# Altium schematic symbol library WE-LQS.SchLib: 214 symbols (part 2 of 4)
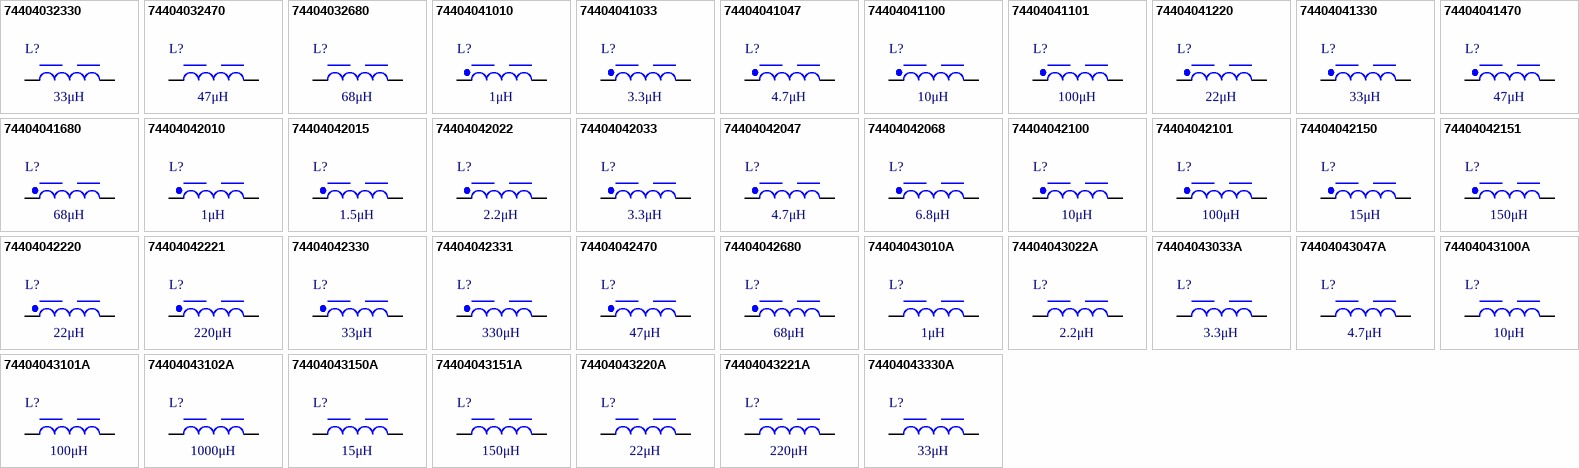
[diagram p6: symbols 74404032330 to 74404043330A]

## 74404042150
designator L?, comment 15μH
WE-LQS SMT Power Inductor, size 4018, 15μH, 0.21Ω; Manufacturer Part Number: 74404042150; Manufacturer: Wurth Elektronik; Case/Size Code: 4018; Rated Current: 0.85A; Saturation Current: 1.4A; Self Resonant Frequency: 25MHz; Category: Power Inductors; Match Code: WE-LQS; ComponentLink1Description: Website Link; ComponentLink1URL: https://www.we-online.com/redexpert/article/74404042150?ad; ComponentLink2Description: Datasheet Link; ComponentLink2URL: https://www.we-online.com/redexpert/spec/74404042150?ad; Mount: Surface Mount; Min Operating Temperature: -40°C; Max Operating Temperature: 125°C; Packaging: Tape and Reel; Length: 4mm; Width: 4mm; Height: 1.8mm; DC Resistance: 0.21Ω; Inductance: 15μH
footprint WE-LQS_4018
simulation model 4018_74404042150_15u
pins: 1, 2

## 74404042151
designator L?, comment 150μH
WE-LQS SMT Power Inductor, size 4018, 150μH, 2.853Ω; Manufacturer Part Number: 74404042151; Manufacturer: Wurth Elektronik; Case/Size Code: 4018; Rated Current: 0.3A; Saturation Current: 0.45A; Self Resonant Frequency: 7.5MHz; Category: Power Inductors; Match Code: WE-LQS; ComponentLink1Description: Website Link; ComponentLink1URL: https://www.we-online.com/redexpert/article/74404042151?ad; ComponentLink2Description: Datasheet Link; ComponentLink2URL: https://www.we-online.com/redexpert/spec/74404042151?ad; Mount: Surface Mount; Min Operating Temperature: -40°C; Max Operating Temperature: 125°C; Packaging: Tape and Reel; Length: 4mm; Width: 4mm; Height: 1.8mm; DC Resistance: 2.853Ω; Inductance: 150μH
footprint WE-LQS_4018
simulation model 4018_74404042151_150u
pins: 1, 2

## 74404042220
designator L?, comment 22μH
WE-LQS SMT Power Inductor, size 4018, 22μH, 0.29Ω; Manufacturer Part Number: 74404042220; Manufacturer: Wurth Elektronik; Case/Size Code: 4018; Rated Current: 0.7A; Saturation Current: 1.1A; Self Resonant Frequency: 23MHz; Category: Power Inductors; Match Code: WE-LQS; ComponentLink1Description: Website Link; ComponentLink1URL: https://www.we-online.com/redexpert/article/74404042220?ad; ComponentLink2Description: Datasheet Link; ComponentLink2URL: https://www.we-online.com/redexpert/spec/74404042220?ad; Mount: Surface Mount; Min Operating Temperature: -40°C; Max Operating Temperature: 125°C; Packaging: Tape and Reel; Length: 4mm; Width: 4mm; Height: 1.8mm; DC Resistance: 0.29Ω; Inductance: 22μH
footprint WE-LQS_4018
simulation model 4018_74404042220_22u
pins: 1, 2

## 74404042221
designator L?, comment 220μH
WE-LQS SMT Power Inductor, size 4018, 220μH, 3.45Ω; Manufacturer Part Number: 74404042221; Manufacturer: Wurth Elektronik; Case/Size Code: 4018; Rated Current: 0.25A; Saturation Current: 0.39A; Self Resonant Frequency: 5.3MHz; Category: Power Inductors; Match Code: WE-LQS; ComponentLink1Description: Website Link; ComponentLink1URL: https://www.we-online.com/redexpert/article/74404042221?ad; ComponentLink2Description: Datasheet Link; ComponentLink2URL: https://www.we-online.com/redexpert/spec/74404042221?ad; Mount: Surface Mount; Min Operating Temperature: -40°C; Max Operating Temperature: 125°C; Packaging: Tape and Reel; Length: 4mm; Width: 4mm; Height: 1.8mm; DC Resistance: 3.45Ω; Inductance: 220μH
footprint WE-LQS_4018
simulation model 4018_74404042221_220u
pins: 1, 2

## 74404042330
designator L?, comment 33μH
WE-LQS SMT Power Inductor, size 4018, 33μH, 0.46Ω; Manufacturer Part Number: 74404042330; Manufacturer: Wurth Elektronik; Case/Size Code: 4018; Rated Current: 0.65A; Saturation Current: 0.9A; Self Resonant Frequency: 16MHz; Category: Power Inductors; Match Code: WE-LQS; ComponentLink1Description: Website Link; ComponentLink1URL: https://www.we-online.com/redexpert/article/74404042330?ad; ComponentLink2Description: Datasheet Link; ComponentLink2URL: https://www.we-online.com/redexpert/spec/74404042330?ad; Mount: Surface Mount; Min Operating Temperature: -40°C; Max Operating Temperature: 125°C; Packaging: Tape and Reel; Length: 4mm; Width: 4mm; Height: 1.8mm; DC Resistance: 0.46Ω; Inductance: 33μH
footprint WE-LQS_4018
simulation model 4018_74404042330_33u
pins: 1, 2

## 74404042331
designator L?, comment 330μH
WE-LQS SMT Power Inductor, size 4018, 330μH, 5.3Ω; Manufacturer Part Number: 74404042331; Manufacturer: Wurth Elektronik; Case/Size Code: 4018; Rated Current: 0.2A; Saturation Current: 0.3A; Self Resonant Frequency: 4.2MHz; Category: Power Inductors; Match Code: WE-LQS; ComponentLink1Description: Website Link; ComponentLink1URL: https://www.we-online.com/redexpert/article/74404042331?ad; ComponentLink2Description: Datasheet Link; ComponentLink2URL: https://www.we-online.com/redexpert/spec/74404042331?ad; Mount: Surface Mount; Min Operating Temperature: -40°C; Max Operating Temperature: 125°C; Packaging: Tape and Reel; Length: 4mm; Width: 4mm; Height: 1.8mm; DC Resistance: 5.3Ω; Inductance: 330μH
footprint WE-LQS_4018
simulation model 4018_74404042331_330u
pins: 1, 2

## 74404042470
designator L?, comment 47μH
WE-LQS SMT Power Inductor, size 4018, 47μH, 0.62Ω; Manufacturer Part Number: 74404042470; Manufacturer: Wurth Elektronik; Case/Size Code: 4018; Rated Current: 0.6A; Saturation Current: 0.7A; Self Resonant Frequency: 11MHz; Category: Power Inductors; Match Code: WE-LQS; ComponentLink1Description: Website Link; ComponentLink1URL: https://www.we-online.com/redexpert/article/74404042470?ad; ComponentLink2Description: Datasheet Link; ComponentLink2URL: https://www.we-online.com/redexpert/spec/74404042470?ad; Mount: Surface Mount; Min Operating Temperature: -40°C; Max Operating Temperature: 125°C; Packaging: Tape and Reel; Length: 4mm; Width: 4mm; Height: 1.8mm; DC Resistance: 0.62Ω; Inductance: 47μH
footprint WE-LQS_4018
simulation model 4018_74404042470_47u
pins: 1, 2

## 74404042680
designator L?, comment 68μH
WE-LQS SMT Power Inductor, size 4018, 68μH, 0.84Ω; Manufacturer Part Number: 74404042680; Manufacturer: Wurth Elektronik; Case/Size Code: 4018; Rated Current: 0.54A; Saturation Current: 0.63A; Self Resonant Frequency: 9MHz; Category: Power Inductors; Match Code: WE-LQS; ComponentLink1Description: Website Link; ComponentLink1URL: https://www.we-online.com/redexpert/article/74404042680?ad; ComponentLink2Description: Datasheet Link; ComponentLink2URL: https://www.we-online.com/redexpert/spec/74404042680?ad; Mount: Surface Mount; Min Operating Temperature: -40°C; Max Operating Temperature: 125°C; Packaging: Tape and Reel; Length: 4mm; Width: 4mm; Height: 1.8mm; DC Resistance: 0.84Ω; Inductance: 68μH
footprint WE-LQS_4018
simulation model 4018_74404042680_68u
pins: 1, 2

## 74404043010A
designator L?, comment 1μH
WE-LQS SMT Power Inductor, size 4025, 1μH, 0.014Ω; Manufacturer Part Number: 74404043010A; Manufacturer: Wurth Elektronik; Case/Size Code: 4025; Rated Current: 4.9A; Saturation Current: 3.22A; Self Resonant Frequency: 167MHz; Category: Power Inductors; Match Code: WE-LQS; ComponentLink1Description: Website Link; ComponentLink1URL: https://www.we-online.com/redexpert/article/74404043010A?ad; ComponentLink2Description: Datasheet Link; ComponentLink2URL: https://www.we-online.com/redexpert/spec/74404043010A?ad; Mount: Surface Mount; Min Operating Temperature: -40°C; Max Operating Temperature: 125°C; Packaging: Tape and Reel; Length: 4mm; Width: 4mm; Height: 2.5mm; DC Resistance: 0.014Ω; Inductance: 1μH
footprint WE-LQS_4025
simulation model 4025_74404043010A_1u
pins: 1, 2

## 74404043022A
designator L?, comment 2.2μH
WE-LQS SMT Power Inductor, size 4025, 2.2μH, 0.023Ω; Manufacturer Part Number: 74404043022A; Manufacturer: Wurth Elektronik; Case/Size Code: 4025; Rated Current: 3.83A; Saturation Current: 2.28A; Self Resonant Frequency: 104MHz; Category: Power Inductors; Match Code: WE-LQS; ComponentLink1Description: Website Link; ComponentLink1URL: https://www.we-online.com/redexpert/article/74404043022A?ad; ComponentLink2Description: Datasheet Link; ComponentLink2URL: https://www.we-online.com/redexpert/spec/74404043022A?ad; Mount: Surface Mount; Min Operating Temperature: -40°C; Max Operating Temperature: 125°C; Packaging: Tape and Reel; Length: 4mm; Width: 4mm; Height: 2.5mm; DC Resistance: 0.023Ω; Inductance: 2.2μH
footprint WE-LQS_4025
simulation model 4025_74404043022A_2.2u
pins: 1, 2

## 74404043033A
designator L?, comment 3.3μH
WE-LQS SMT Power Inductor, size 4025, 3.3μH, 0.033Ω; Manufacturer Part Number: 74404043033A; Manufacturer: Wurth Elektronik; Case/Size Code: 4025; Rated Current: 3.23A; Saturation Current: 1.75A; Self Resonant Frequency: 75MHz; Category: Power Inductors; Match Code: WE-LQS; ComponentLink1Description: Website Link; ComponentLink1URL: https://www.we-online.com/redexpert/article/74404043033A?ad; ComponentLink2Description: Datasheet Link; ComponentLink2URL: https://www.we-online.com/redexpert/spec/74404043033A?ad; Mount: Surface Mount; Min Operating Temperature: -40°C; Max Operating Temperature: 125°C; Packaging: Tape and Reel; Length: 4mm; Width: 4mm; Height: 2.5mm; DC Resistance: 0.033Ω; Inductance: 3.3μH
footprint WE-LQS_4025
simulation model 4025_74404043033A_3.3u
pins: 1, 2

## 74404043047A
designator L?, comment 4.7μH
WE-LQS SMT Power Inductor, size 4025, 4.7μH, 0.046Ω; Manufacturer Part Number: 74404043047A; Manufacturer: Wurth Elektronik; Case/Size Code: 4025; Rated Current: 2.3A; Saturation Current: 1.43A; Self Resonant Frequency: 61MHz; Category: Power Inductors; Match Code: WE-LQS; ComponentLink1Description: Website Link; ComponentLink1URL: https://www.we-online.com/redexpert/article/74404043047A?ad; ComponentLink2Description: Datasheet Link; ComponentLink2URL: https://www.we-online.com/redexpert/spec/74404043047A?ad; Mount: Surface Mount; Min Operating Temperature: -40°C; Max Operating Temperature: 125°C; Packaging: Tape and Reel; Length: 4mm; Width: 4mm; Height: 2.5mm; DC Resistance: 0.046Ω; Inductance: 4.7μH
footprint WE-LQS_4025
simulation model 4025_74404043047A_4.7u
pins: 1, 2

## 74404043100A
designator L?, comment 10μH
WE-LQS SMT Power Inductor, size 4025, 10μH, 0.089Ω; Manufacturer Part Number: 74404043100A; Manufacturer: Wurth Elektronik; Case/Size Code: 4025; Rated Current: 1.76A; Saturation Current: 1.04A; Self Resonant Frequency: 42MHz; Category: Power Inductors; Match Code: WE-LQS; ComponentLink1Description: Website Link; ComponentLink1URL: https://www.we-online.com/redexpert/article/74404043100A?ad; ComponentLink2Description: Datasheet Link; ComponentLink2URL: https://www.we-online.com/redexpert/spec/74404043100A?ad; Mount: Surface Mount; Min Operating Temperature: -40°C; Max Operating Temperature: 125°C; Packaging: Tape and Reel; Length: 4mm; Width: 4mm; Height: 2.5mm; DC Resistance: 0.089Ω; Inductance: 10μH
footprint WE-LQS_4025
simulation model 4025_74404043100A_10u
pins: 1, 2

## 74404043101A
designator L?, comment 100μH
WE-LQS SMT Power Inductor, size 4025, 100μH, 1.043Ω; Manufacturer Part Number: 74404043101A; Manufacturer: Wurth Elektronik; Case/Size Code: 4025; Rated Current: 0.49A; Saturation Current: 0.29A; Self Resonant Frequency: 11MHz; Category: Power Inductors; Match Code: WE-LQS; ComponentLink1Description: Website Link; ComponentLink1URL: https://www.we-online.com/redexpert/article/74404043101A?ad; ComponentLink2Description: Datasheet Link; ComponentLink2URL: https://www.we-online.com/redexpert/spec/74404043101A?ad; Mount: Surface Mount; Min Operating Temperature: -40°C; Max Operating Temperature: 125°C; Packaging: Tape and Reel; Length: 4mm; Width: 4mm; Height: 2.5mm; DC Resistance: 1.043Ω; Inductance: 100μH
footprint WE-LQS_4025
simulation model 4025_74404043101A_100u
pins: 1, 2

## 74404043102A
designator L?, comment 1000μH
WE-LQS SMT Power Inductor, size 4025, 1000μH, 10.342Ω; Manufacturer Part Number: 74404043102A; Manufacturer: Wurth Elektronik; Case/Size Code: 4025; Rated Current: 0.16A; Saturation Current: 0.09A; Self Resonant Frequency: 3MHz; Category: Power Inductors; Match Code: WE-LQS; ComponentLink1Description: Website Link; ComponentLink1URL: https://www.we-online.com/redexpert/article/74404043102A?ad; ComponentLink2Description: Datasheet Link; ComponentLink2URL: https://www.we-online.com/redexpert/spec/74404043102A?ad; Mount: Surface Mount; Min Operating Temperature: -40°C; Max Operating Temperature: 125°C; Packaging: Tape and Reel; Length: 4mm; Width: 4mm; Height: 2.5mm; DC Resistance: 10.342Ω; Inductance: 1000μH
footprint WE-LQS_4025
pins: 1, 2

## 74404043150A
designator L?, comment 15μH
WE-LQS SMT Power Inductor, size 4025, 15μH, 0.132Ω; Manufacturer Part Number: 74404043150A; Manufacturer: Wurth Elektronik; Case/Size Code: 4025; Rated Current: 1.45A; Saturation Current: 0.84A; Self Resonant Frequency: 33MHz; Category: Power Inductors; Match Code: WE-LQS; ComponentLink1Description: Website Link; ComponentLink1URL: https://www.we-online.com/redexpert/article/74404043150A?ad; ComponentLink2Description: Datasheet Link; ComponentLink2URL: https://www.we-online.com/redexpert/spec/74404043150A?ad; Mount: Surface Mount; Min Operating Temperature: -40°C; Max Operating Temperature: 125°C; Packaging: Tape and Reel; Length: 4mm; Width: 4mm; Height: 2.5mm; DC Resistance: 0.132Ω; Inductance: 15μH
footprint WE-LQS_4025
simulation model 4025_74404043150A_15u
pins: 1, 2

## 74404043151A
designator L?, comment 150μH
WE-LQS SMT Power Inductor, size 4025, 150μH, 1.634Ω; Manufacturer Part Number: 74404043151A; Manufacturer: Wurth Elektronik; Case/Size Code: 4025; Rated Current: 0.39A; Saturation Current: 0.27A; Self Resonant Frequency: 9MHz; Category: Power Inductors; Match Code: WE-LQS; ComponentLink1Description: Website Link; ComponentLink1URL: https://www.we-online.com/redexpert/article/74404043151A?ad; ComponentLink2Description: Datasheet Link; ComponentLink2URL: https://www.we-online.com/redexpert/spec/74404043151A?ad; Mount: Surface Mount; Min Operating Temperature: -40°C; Max Operating Temperature: 125°C; Packaging: Tape and Reel; Length: 4mm; Width: 4mm; Height: 2.5mm; DC Resistance: 1.634Ω; Inductance: 150μH
footprint WE-LQS_4025
simulation model 4025_74404043151A_150u
pins: 1, 2

## 74404043220A
designator L?, comment 22μH
WE-LQS SMT Power Inductor, size 4025, 22μH, 0.2Ω; Manufacturer Part Number: 74404043220A; Manufacturer: Wurth Elektronik; Case/Size Code: 4025; Rated Current: 1.11A; Saturation Current: 0.7A; Self Resonant Frequency: 26MHz; Category: Power Inductors; Match Code: WE-LQS; ComponentLink1Description: Website Link; ComponentLink1URL: https://www.we-online.com/redexpert/article/74404043220A?ad; ComponentLink2Description: Datasheet Link; ComponentLink2URL: https://www.we-online.com/redexpert/spec/74404043220A?ad; Mount: Surface Mount; Min Operating Temperature: -40°C; Max Operating Temperature: 125°C; Packaging: Tape and Reel; Length: 4mm; Width: 4mm; Height: 2.5mm; DC Resistance: 0.2Ω; Inductance: 22μH
footprint WE-LQS_4025
simulation model 4025_74404043220A_22u
pins: 1, 2

## 74404043221A
designator L?, comment 220μH
WE-LQS SMT Power Inductor, size 4025, 220μH, 2.43Ω; Manufacturer Part Number: 74404043221A; Manufacturer: Wurth Elektronik; Case/Size Code: 4025; Rated Current: 0.31A; Saturation Current: 0.21A; Self Resonant Frequency: 7MHz; Category: Power Inductors; Match Code: WE-LQS; ComponentLink1Description: Website Link; ComponentLink1URL: https://www.we-online.com/redexpert/article/74404043221A?ad; ComponentLink2Description: Datasheet Link; ComponentLink2URL: https://www.we-online.com/redexpert/spec/74404043221A?ad; Mount: Surface Mount; Min Operating Temperature: -40°C; Max Operating Temperature: 125°C; Packaging: Tape and Reel; Length: 4mm; Width: 4mm; Height: 2.5mm; DC Resistance: 2.43Ω; Inductance: 220μH
footprint WE-LQS_4025
simulation model 4025_74404043221A_220u
pins: 1, 2

## 74404043330A
designator L?, comment 33μH
WE-LQS SMT Power Inductor, size 4025, 33μH, 0.316Ω; Manufacturer Part Number: 74404043330A; Manufacturer: Wurth Elektronik; Case/Size Code: 4025; Rated Current: 0.88A; Saturation Current: 0.53A; Self Resonant Frequency: 21MHz; Category: Power Inductors; Match Code: WE-LQS; ComponentLink1Description: Website Link; ComponentLink1URL: https://www.we-online.com/redexpert/article/74404043330A?ad; ComponentLink2Description: Datasheet Link; ComponentLink2URL: https://www.we-online.com/redexpert/spec/74404043330A?ad; Mount: Surface Mount; Min Operating Temperature: -40°C; Max Operating Temperature: 125°C; Packaging: Tape and Reel; Length: 4mm; Width: 4mm; Height: 2.5mm; DC Resistance: 0.316Ω; Inductance: 33μH
footprint WE-LQS_4025
simulation model 4025_74404043330A_33u
pins: 1, 2

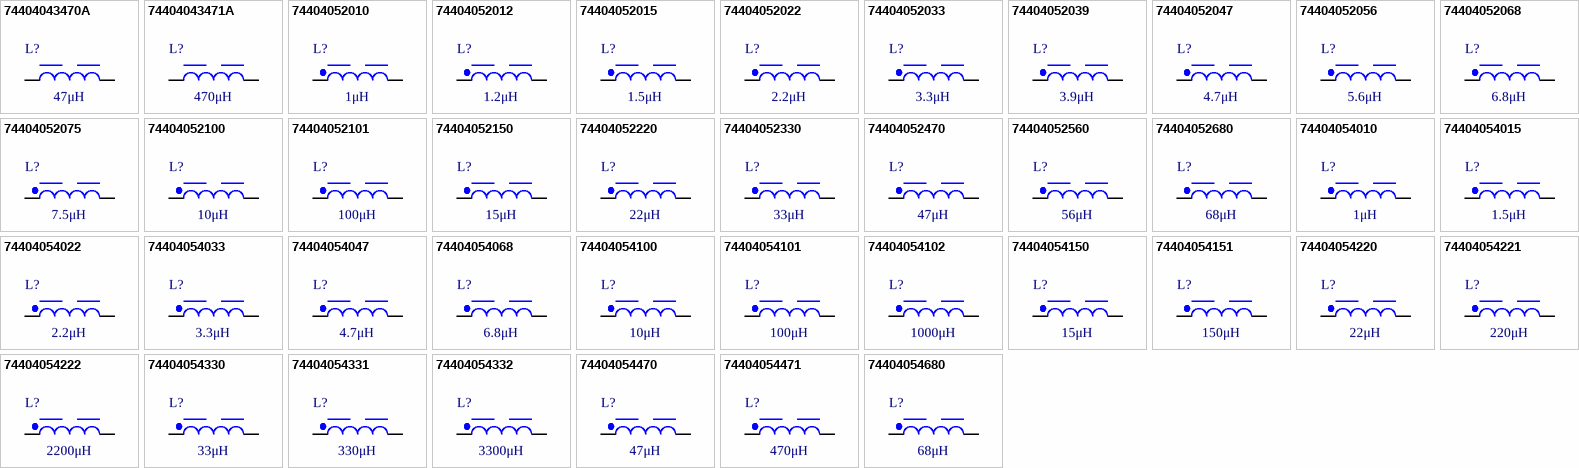
[diagram p2: symbols 74404043470A to 74404054680]

## 74404043470A
designator L?, comment 47μH
WE-LQS SMT Power Inductor, size 4025, 47μH, 0.492Ω; Manufacturer Part Number: 74404043470A; Manufacturer: Wurth Elektronik; Case/Size Code: 4025; Rated Current: 0.71A; Saturation Current: 0.45A; Self Resonant Frequency: 15MHz; Category: Power Inductors; Match Code: WE-LQS; ComponentLink1Description: Website Link; ComponentLink1URL: https://www.we-online.com/redexpert/article/74404043470A?ad; ComponentLink2Description: Datasheet Link; ComponentLink2URL: https://www.we-online.com/redexpert/spec/74404043470A?ad; Mount: Surface Mount; Min Operating Temperature: -40°C; Max Operating Temperature: 125°C; Packaging: Tape and Reel; Length: 4mm; Width: 4mm; Height: 2.5mm; DC Resistance: 0.492Ω; Inductance: 47μH
footprint WE-LQS_4025
simulation model 4025_74404043470A_47u
pins: 1, 2

## 74404043471A
designator L?, comment 470μH
WE-LQS SMT Power Inductor, size 4025, 470μH, 4.15Ω; Manufacturer Part Number: 74404043471A; Manufacturer: Wurth Elektronik; Case/Size Code: 4025; Rated Current: 0.25A; Saturation Current: 0.14A; Self Resonant Frequency: 4.7MHz; Category: Power Inductors; Match Code: WE-LQS; ComponentLink1Description: Website Link; ComponentLink1URL: https://www.we-online.com/redexpert/article/74404043471A?ad; ComponentLink2Description: Datasheet Link; ComponentLink2URL: https://www.we-online.com/redexpert/spec/74404043471A?ad; Mount: Surface Mount; Min Operating Temperature: -40°C; Max Operating Temperature: 125°C; Packaging: Tape and Reel; Length: 4mm; Width: 4mm; Height: 2.5mm; DC Resistance: 4.15Ω; Inductance: 470μH
footprint WE-LQS_4025
simulation model 4025_74404043471A_470u
pins: 1, 2

## 74404052010
designator L?, comment 1μH
WE-LQS SMT Power Inductor, size 5020, 1μH, 0.0198Ω; Manufacturer Part Number: 74404052010; Manufacturer: Wurth Elektronik; Case/Size Code: 5020; Rated Current: 3.9A; Saturation Current: 6.3A; Self Resonant Frequency: 145MHz; Category: Power Inductors; Match Code: WE-LQS; ComponentLink1Description: Website Link; ComponentLink1URL: https://www.we-online.com/redexpert/article/74404052010?ad; ComponentLink2Description: Datasheet Link; ComponentLink2URL: https://www.we-online.com/redexpert/spec/74404052010?ad; Mount: Surface Mount; Min Operating Temperature: -40°C; Max Operating Temperature: 125°C; Packaging: Tape and Reel; Length: 5mm; Width: 5mm; Height: 2mm; DC Resistance: 0.0198Ω; Inductance: 1μH
footprint WE-LQS_5020
simulation model 5020_74404052010_1u
pins: 1, 2

## 74404052012
designator L?, comment 1.2μH
WE-LQS SMT Power Inductor, size 5020, 1.2μH, 0.0234Ω; Manufacturer Part Number: 74404052012; Manufacturer: Wurth Elektronik; Case/Size Code: 5020; Rated Current: 3.6A; Saturation Current: 5.2A; Self Resonant Frequency: 130MHz; Category: Power Inductors; Match Code: WE-LQS; ComponentLink1Description: Website Link; ComponentLink1URL: https://www.we-online.com/redexpert/article/74404052012?ad; ComponentLink2Description: Datasheet Link; ComponentLink2URL: https://www.we-online.com/redexpert/spec/74404052012?ad; Mount: Surface Mount; Min Operating Temperature: -40°C; Max Operating Temperature: 125°C; Packaging: Tape and Reel; Length: 5mm; Width: 5mm; Height: 2mm; DC Resistance: 0.0234Ω; Inductance: 1.2μH
footprint WE-LQS_5020
simulation model 5020_74404052012_1.2u
pins: 1, 2

## 74404052015
designator L?, comment 1.5μH
WE-LQS SMT Power Inductor, size 5020, 1.5μH, 0.0257Ω; Manufacturer Part Number: 74404052015; Manufacturer: Wurth Elektronik; Case/Size Code: 5020; Rated Current: 3.3A; Saturation Current: 4.9A; Self Resonant Frequency: 92MHz; Category: Power Inductors; Match Code: WE-LQS; ComponentLink1Description: Website Link; ComponentLink1URL: https://www.we-online.com/redexpert/article/74404052015?ad; ComponentLink2Description: Datasheet Link; ComponentLink2URL: https://www.we-online.com/redexpert/spec/74404052015?ad; Mount: Surface Mount; Min Operating Temperature: -40°C; Max Operating Temperature: 125°C; Packaging: Tape and Reel; Length: 5mm; Width: 5mm; Height: 2mm; DC Resistance: 0.0257Ω; Inductance: 1.5μH
footprint WE-LQS_5020
simulation model 5020_74404052015_1.5u
pins: 1, 2

## 74404052022
designator L?, comment 2.2μH
WE-LQS SMT Power Inductor, size 5020, 2.2μH, 0.0316Ω; Manufacturer Part Number: 74404052022; Manufacturer: Wurth Elektronik; Case/Size Code: 5020; Rated Current: 3A; Saturation Current: 4.2A; Self Resonant Frequency: 88MHz; Category: Power Inductors; Match Code: WE-LQS; ComponentLink1Description: Website Link; ComponentLink1URL: https://www.we-online.com/redexpert/article/74404052022?ad; ComponentLink2Description: Datasheet Link; ComponentLink2URL: https://www.we-online.com/redexpert/spec/74404052022?ad; Mount: Surface Mount; Min Operating Temperature: -40°C; Max Operating Temperature: 125°C; Packaging: Tape and Reel; Length: 5mm; Width: 5mm; Height: 2mm; DC Resistance: 0.0316Ω; Inductance: 2.2μH
footprint WE-LQS_5020
simulation model 5020_74404052022_2.2u
pins: 1, 2

## 74404052033
designator L?, comment 3.3μH
WE-LQS SMT Power Inductor, size 5020, 3.3μH, 0.0422Ω; Manufacturer Part Number: 74404052033; Manufacturer: Wurth Elektronik; Case/Size Code: 5020; Rated Current: 2.6A; Saturation Current: 3.5A; Self Resonant Frequency: 70MHz; Category: Power Inductors; Match Code: WE-LQS; ComponentLink1Description: Website Link; ComponentLink1URL: https://www.we-online.com/redexpert/article/74404052033?ad; ComponentLink2Description: Datasheet Link; ComponentLink2URL: https://www.we-online.com/redexpert/spec/74404052033?ad; Mount: Surface Mount; Min Operating Temperature: -40°C; Max Operating Temperature: 125°C; Packaging: Tape and Reel; Length: 5mm; Width: 5mm; Height: 2mm; DC Resistance: 0.0422Ω; Inductance: 3.3μH
footprint WE-LQS_5020
simulation model 5020_74404052033_3.3u
pins: 1, 2

## 74404052039
designator L?, comment 3.9μH
WE-LQS SMT Power Inductor, size 5020, 3.9μH, 0.0505Ω; Manufacturer Part Number: 74404052039; Manufacturer: Wurth Elektronik; Case/Size Code: 5020; Rated Current: 2.4A; Saturation Current: 2.8A; Self Resonant Frequency: 59MHz; Category: Power Inductors; Match Code: WE-LQS; ComponentLink1Description: Website Link; ComponentLink1URL: https://www.we-online.com/redexpert/article/74404052039?ad; ComponentLink2Description: Datasheet Link; ComponentLink2URL: https://www.we-online.com/redexpert/spec/74404052039?ad; Mount: Surface Mount; Min Operating Temperature: -40°C; Max Operating Temperature: 125°C; Packaging: Tape and Reel; Length: 5mm; Width: 5mm; Height: 2mm; DC Resistance: 0.0505Ω; Inductance: 3.9μH
footprint WE-LQS_5020
simulation model 5020_74404052039_3.9u
pins: 1, 2

## 74404052047
designator L?, comment 4.7μH
WE-LQS SMT Power Inductor, size 5020, 4.7μH, 0.0559Ω; Manufacturer Part Number: 74404052047; Manufacturer: Wurth Elektronik; Case/Size Code: 5020; Rated Current: 2.3A; Saturation Current: 2.7A; Self Resonant Frequency: 57MHz; Category: Power Inductors; Match Code: WE-LQS; ComponentLink1Description: Website Link; ComponentLink1URL: https://www.we-online.com/redexpert/article/74404052047?ad; ComponentLink2Description: Datasheet Link; ComponentLink2URL: https://www.we-online.com/redexpert/spec/74404052047?ad; Mount: Surface Mount; Min Operating Temperature: -40°C; Max Operating Temperature: 125°C; Packaging: Tape and Reel; Length: 5mm; Width: 5mm; Height: 2mm; DC Resistance: 0.0559Ω; Inductance: 4.7μH
footprint WE-LQS_5020
simulation model 5020_74404052047_4.7u
pins: 1, 2

## 74404052056
designator L?, comment 5.6μH
WE-LQS SMT Power Inductor, size 5020, 5.6μH, 0.0675Ω; Manufacturer Part Number: 74404052056; Manufacturer: Wurth Elektronik; Case/Size Code: 5020; Rated Current: 2.1A; Saturation Current: 2.55A; Self Resonant Frequency: 50MHz; Category: Power Inductors; Match Code: WE-LQS; ComponentLink1Description: Website Link; ComponentLink1URL: https://www.we-online.com/redexpert/article/74404052056?ad; ComponentLink2Description: Datasheet Link; ComponentLink2URL: https://www.we-online.com/redexpert/spec/74404052056?ad; Mount: Surface Mount; Min Operating Temperature: -40°C; Max Operating Temperature: 125°C; Packaging: Tape and Reel; Length: 5mm; Width: 5mm; Height: 2mm; DC Resistance: 0.0675Ω; Inductance: 5.6μH
footprint WE-LQS_5020
simulation model 5020_74404052056_5.6u
pins: 1, 2

## 74404052068
designator L?, comment 6.8μH
WE-LQS SMT Power Inductor, size 5020, 6.8μH, 0.0827Ω; Manufacturer Part Number: 74404052068; Manufacturer: Wurth Elektronik; Case/Size Code: 5020; Rated Current: 1.9A; Saturation Current: 2.4A; Self Resonant Frequency: 43MHz; Category: Power Inductors; Match Code: WE-LQS; ComponentLink1Description: Website Link; ComponentLink1URL: https://www.we-online.com/redexpert/article/74404052068?ad; ComponentLink2Description: Datasheet Link; ComponentLink2URL: https://www.we-online.com/redexpert/spec/74404052068?ad; Mount: Surface Mount; Min Operating Temperature: -40°C; Max Operating Temperature: 125°C; Packaging: Tape and Reel; Length: 5mm; Width: 5mm; Height: 2mm; DC Resistance: 0.0827Ω; Inductance: 6.8μH
footprint WE-LQS_5020
simulation model 5020_74404052068_6.8u
pins: 1, 2

## 74404052075
designator L?, comment 7.5μH
WE-LQS SMT Power Inductor, size 5020, 7.5μH, 0.0968Ω; Manufacturer Part Number: 74404052075; Manufacturer: Wurth Elektronik; Case/Size Code: 5020; Rated Current: 1.7A; Saturation Current: 2.1A; Self Resonant Frequency: 40MHz; Category: Power Inductors; Match Code: WE-LQS; ComponentLink1Description: Website Link; ComponentLink1URL: https://www.we-online.com/redexpert/article/74404052075?ad; ComponentLink2Description: Datasheet Link; ComponentLink2URL: https://www.we-online.com/redexpert/spec/74404052075?ad; Mount: Surface Mount; Min Operating Temperature: -40°C; Max Operating Temperature: 125°C; Packaging: Tape and Reel; Length: 5mm; Width: 5mm; Height: 2mm; DC Resistance: 0.0968Ω; Inductance: 7.5μH
footprint WE-LQS_5020
simulation model 5020_74404052075_7.5u
pins: 1, 2

## 74404052100
designator L?, comment 10μH
WE-LQS SMT Power Inductor, size 5020, 10μH, 0.109Ω; Manufacturer Part Number: 74404052100; Manufacturer: Wurth Elektronik; Case/Size Code: 5020; Rated Current: 1.6A; Saturation Current: 1.95A; Self Resonant Frequency: 37MHz; Category: Power Inductors; Match Code: WE-LQS; ComponentLink1Description: Website Link; ComponentLink1URL: https://www.we-online.com/redexpert/article/74404052100?ad; ComponentLink2Description: Datasheet Link; ComponentLink2URL: https://www.we-online.com/redexpert/spec/74404052100?ad; Mount: Surface Mount; Min Operating Temperature: -40°C; Max Operating Temperature: 125°C; Packaging: Tape and Reel; Length: 5mm; Width: 5mm; Height: 2mm; DC Resistance: 0.109Ω; Inductance: 10μH
footprint WE-LQS_5020
simulation model 5020_74404052100_10u
pins: 1, 2

## 74404052101
designator L?, comment 100μH
WE-LQS SMT Power Inductor, size 5020, 100μH, 1.09Ω; Manufacturer Part Number: 74404052101; Manufacturer: Wurth Elektronik; Case/Size Code: 5020; Rated Current: 0.55A; Saturation Current: 0.6A; Self Resonant Frequency: 8.7MHz; Category: Power Inductors; Match Code: WE-LQS; ComponentLink1Description: Website Link; ComponentLink1URL: https://www.we-online.com/redexpert/article/74404052101?ad; ComponentLink2Description: Datasheet Link; ComponentLink2URL: https://www.we-online.com/redexpert/spec/74404052101?ad; Mount: Surface Mount; Min Operating Temperature: -40°C; Max Operating Temperature: 125°C; Packaging: Tape and Reel; Length: 5mm; Width: 5mm; Height: 2mm; DC Resistance: 1.09Ω; Inductance: 100μH
footprint WE-LQS_5020
simulation model 5020_74404052101_100u
pins: 1, 2

## 74404052150
designator L?, comment 15μH
WE-LQS SMT Power Inductor, size 5020, 15μH, 0.162Ω; Manufacturer Part Number: 74404052150; Manufacturer: Wurth Elektronik; Case/Size Code: 5020; Rated Current: 1.3A; Saturation Current: 1.5A; Self Resonant Frequency: 31MHz; Category: Power Inductors; Match Code: WE-LQS; ComponentLink1Description: Website Link; ComponentLink1URL: https://www.we-online.com/redexpert/article/74404052150?ad; ComponentLink2Description: Datasheet Link; ComponentLink2URL: https://www.we-online.com/redexpert/spec/74404052150?ad; Mount: Surface Mount; Min Operating Temperature: -40°C; Max Operating Temperature: 125°C; Packaging: Tape and Reel; Length: 5mm; Width: 5mm; Height: 2mm; DC Resistance: 0.162Ω; Inductance: 15μH
footprint WE-LQS_5020
simulation model 5020_74404052150_15u
pins: 1, 2

## 74404052220
designator L?, comment 22μH
WE-LQS SMT Power Inductor, size 5020, 22μH, 0.225Ω; Manufacturer Part Number: 74404052220; Manufacturer: Wurth Elektronik; Case/Size Code: 5020; Rated Current: 1.15A; Saturation Current: 1.35A; Self Resonant Frequency: 22MHz; Category: Power Inductors; Match Code: WE-LQS; ComponentLink1Description: Website Link; ComponentLink1URL: https://www.we-online.com/redexpert/article/74404052220?ad; ComponentLink2Description: Datasheet Link; ComponentLink2URL: https://www.we-online.com/redexpert/spec/74404052220?ad; Mount: Surface Mount; Min Operating Temperature: -40°C; Max Operating Temperature: 125°C; Packaging: Tape and Reel; Length: 5mm; Width: 5mm; Height: 2mm; DC Resistance: 0.225Ω; Inductance: 22μH
footprint WE-LQS_5020
simulation model 5020_74404052220_22u
pins: 1, 2

## 74404052330
designator L?, comment 33μH
WE-LQS SMT Power Inductor, size 5020, 33μH, 0.387Ω; Manufacturer Part Number: 74404052330; Manufacturer: Wurth Elektronik; Case/Size Code: 5020; Rated Current: 0.95A; Saturation Current: 1.1A; Self Resonant Frequency: 15MHz; Category: Power Inductors; Match Code: WE-LQS; ComponentLink1Description: Website Link; ComponentLink1URL: https://www.we-online.com/redexpert/article/74404052330?ad; ComponentLink2Description: Datasheet Link; ComponentLink2URL: https://www.we-online.com/redexpert/spec/74404052330?ad; Mount: Surface Mount; Min Operating Temperature: -40°C; Max Operating Temperature: 125°C; Packaging: Tape and Reel; Length: 5mm; Width: 5mm; Height: 2mm; DC Resistance: 0.387Ω; Inductance: 33μH
footprint WE-LQS_5020
simulation model 5020_74404052330_33u
pins: 1, 2

## 74404052470
designator L?, comment 47μH
WE-LQS SMT Power Inductor, size 5020, 47μH, 0.521Ω; Manufacturer Part Number: 74404052470; Manufacturer: Wurth Elektronik; Case/Size Code: 5020; Rated Current: 0.8A; Saturation Current: 0.95A; Self Resonant Frequency: 13MHz; Category: Power Inductors; Match Code: WE-LQS; ComponentLink1Description: Website Link; ComponentLink1URL: https://www.we-online.com/redexpert/article/74404052470?ad; ComponentLink2Description: Datasheet Link; ComponentLink2URL: https://www.we-online.com/redexpert/spec/74404052470?ad; Mount: Surface Mount; Min Operating Temperature: -40°C; Max Operating Temperature: 125°C; Packaging: Tape and Reel; Length: 5mm; Width: 5mm; Height: 2mm; DC Resistance: 0.521Ω; Inductance: 47μH
footprint WE-LQS_5020
simulation model 5020_74404052470_47u
pins: 1, 2

## 74404052560
designator L?, comment 56μH
WE-LQS SMT Power Inductor, size 5020, 56μH, 0.627Ω; Manufacturer Part Number: 74404052560; Manufacturer: Wurth Elektronik; Case/Size Code: 5020; Rated Current: 0.72A; Saturation Current: 0.85A; Self Resonant Frequency: 12MHz; Category: Power Inductors; Match Code: WE-LQS; ComponentLink1Description: Website Link; ComponentLink1URL: https://www.we-online.com/redexpert/article/74404052560?ad; ComponentLink2Description: Datasheet Link; ComponentLink2URL: https://www.we-online.com/redexpert/spec/74404052560?ad; Mount: Surface Mount; Min Operating Temperature: -40°C; Max Operating Temperature: 125°C; Packaging: Tape and Reel; Length: 5mm; Width: 5mm; Height: 2mm; DC Resistance: 0.627Ω; Inductance: 56μH
footprint WE-LQS_5020
simulation model 5020_74404052560_56u
pins: 1, 2

## 74404052680
designator L?, comment 68μH
WE-LQS SMT Power Inductor, size 5020, 68μH, 0.769Ω; Manufacturer Part Number: 74404052680; Manufacturer: Wurth Elektronik; Case/Size Code: 5020; Rated Current: 0.62A; Saturation Current: 0.8A; Self Resonant Frequency: 9.2MHz; Category: Power Inductors; Match Code: WE-LQS; ComponentLink1Description: Website Link; ComponentLink1URL: https://www.we-online.com/redexpert/article/74404052680?ad; ComponentLink2Description: Datasheet Link; ComponentLink2URL: https://www.we-online.com/redexpert/spec/74404052680?ad; Mount: Surface Mount; Min Operating Temperature: -40°C; Max Operating Temperature: 125°C; Packaging: Tape and Reel; Length: 5mm; Width: 5mm; Height: 2mm; DC Resistance: 0.769Ω; Inductance: 68μH
footprint WE-LQS_5020
simulation model 5020_74404052680_68u
pins: 1, 2

## 74404054010
designator L?, comment 1μH
WE-LQS SMT Power Inductor, size 5040, 1μH, 0.012Ω; Manufacturer Part Number: 74404054010; Manufacturer: Wurth Elektronik; Case/Size Code: 5040; Rated Current: 4.9A; Saturation Current: 8A; Self Resonant Frequency: 187MHz; Category: Power Inductors; Match Code: WE-LQS; ComponentLink1Description: Website Link; ComponentLink1URL: https://www.we-online.com/redexpert/article/74404054010?ad; ComponentLink2Description: Datasheet Link; ComponentLink2URL: https://www.we-online.com/redexpert/spec/74404054010?ad; Mount: Surface Mount; Min Operating Temperature: -40°C; Max Operating Temperature: 125°C; Packaging: Tape and Reel; Length: 5mm; Width: 5mm; Height: 4mm; DC Resistance: 0.012Ω; Inductance: 1μH
footprint WE-LQS_5040
simulation model 5040_74404054010_1u
pins: 1, 2

## 74404054015
designator L?, comment 1.5μH
WE-LQS SMT Power Inductor, size 5040, 1.5μH, 0.015Ω; Manufacturer Part Number: 74404054015; Manufacturer: Wurth Elektronik; Case/Size Code: 5040; Rated Current: 4.3A; Saturation Current: 6.9A; Self Resonant Frequency: 137MHz; Category: Power Inductors; Match Code: WE-LQS; ComponentLink1Description: Website Link; ComponentLink1URL: https://www.we-online.com/redexpert/article/74404054015?ad; ComponentLink2Description: Datasheet Link; ComponentLink2URL: https://www.we-online.com/redexpert/spec/74404054015?ad; Mount: Surface Mount; Min Operating Temperature: -40°C; Max Operating Temperature: 125°C; Packaging: Tape and Reel; Length: 5mm; Width: 5mm; Height: 4mm; DC Resistance: 0.015Ω; Inductance: 1.5μH
footprint WE-LQS_5040
simulation model 5040_74404054015_1.5u
pins: 1, 2

## 74404054022
designator L?, comment 2.2μH
WE-LQS SMT Power Inductor, size 5040, 2.2μH, 0.019Ω; Manufacturer Part Number: 74404054022; Manufacturer: Wurth Elektronik; Case/Size Code: 5040; Rated Current: 3.8A; Saturation Current: 5.3A; Self Resonant Frequency: 77MHz; Category: Power Inductors; Match Code: WE-LQS; ComponentLink1Description: Website Link; ComponentLink1URL: https://www.we-online.com/redexpert/article/74404054022?ad; ComponentLink2Description: Datasheet Link; ComponentLink2URL: https://www.we-online.com/redexpert/spec/74404054022?ad; Mount: Surface Mount; Min Operating Temperature: -40°C; Max Operating Temperature: 125°C; Packaging: Tape and Reel; Length: 5mm; Width: 5mm; Height: 4mm; DC Resistance: 0.019Ω; Inductance: 2.2μH
footprint WE-LQS_5040
simulation model 5040_74404054022_2.2u
pins: 1, 2

## 74404054033
designator L?, comment 3.3μH
WE-LQS SMT Power Inductor, size 5040, 3.3μH, 0.024Ω; Manufacturer Part Number: 74404054033; Manufacturer: Wurth Elektronik; Case/Size Code: 5040; Rated Current: 3.4A; Saturation Current: 4.3A; Self Resonant Frequency: 48MHz; Category: Power Inductors; Match Code: WE-LQS; ComponentLink1Description: Website Link; ComponentLink1URL: https://www.we-online.com/redexpert/article/74404054033?ad; ComponentLink2Description: Datasheet Link; ComponentLink2URL: https://www.we-online.com/redexpert/spec/74404054033?ad; Mount: Surface Mount; Min Operating Temperature: -40°C; Max Operating Temperature: 125°C; Packaging: Tape and Reel; Length: 5mm; Width: 5mm; Height: 4mm; DC Resistance: 0.024Ω; Inductance: 3.3μH
footprint WE-LQS_5040
simulation model 5040_74404054033_3.3u
pins: 1, 2

## 74404054047
designator L?, comment 4.7μH
WE-LQS SMT Power Inductor, size 5040, 4.7μH, 0.03Ω; Manufacturer Part Number: 74404054047; Manufacturer: Wurth Elektronik; Case/Size Code: 5040; Rated Current: 3A; Saturation Current: 3.8A; Self Resonant Frequency: 43MHz; Category: Power Inductors; Match Code: WE-LQS; ComponentLink1Description: Website Link; ComponentLink1URL: https://www.we-online.com/redexpert/article/74404054047?ad; ComponentLink2Description: Datasheet Link; ComponentLink2URL: https://www.we-online.com/redexpert/spec/74404054047?ad; Mount: Surface Mount; Min Operating Temperature: -40°C; Max Operating Temperature: 125°C; Packaging: Tape and Reel; Length: 5mm; Width: 5mm; Height: 4mm; DC Resistance: 0.03Ω; Inductance: 4.7μH
footprint WE-LQS_5040
simulation model 5040_74404054047_4.7u
pins: 1, 2

## 74404054068
designator L?, comment 6.8μH
WE-LQS SMT Power Inductor, size 5040, 6.8μH, 0.043Ω; Manufacturer Part Number: 74404054068; Manufacturer: Wurth Elektronik; Case/Size Code: 5040; Rated Current: 2.5A; Saturation Current: 3.2A; Self Resonant Frequency: 35MHz; Category: Power Inductors; Match Code: WE-LQS; ComponentLink1Description: Website Link; ComponentLink1URL: https://www.we-online.com/redexpert/article/74404054068?ad; ComponentLink2Description: Datasheet Link; ComponentLink2URL: https://www.we-online.com/redexpert/spec/74404054068?ad; Mount: Surface Mount; Min Operating Temperature: -40°C; Max Operating Temperature: 125°C; Packaging: Tape and Reel; Length: 5mm; Width: 5mm; Height: 4mm; DC Resistance: 0.043Ω; Inductance: 6.8μH
footprint WE-LQS_5040
simulation model 5040_74404054068_6.8u
pins: 1, 2

## 74404054100
designator L?, comment 10μH
WE-LQS SMT Power Inductor, size 5040, 10μH, 0.064Ω; Manufacturer Part Number: 74404054100; Manufacturer: Wurth Elektronik; Case/Size Code: 5040; Rated Current: 2.1A; Saturation Current: 2.5A; Self Resonant Frequency: 26MHz; Category: Power Inductors; Match Code: WE-LQS; ComponentLink1Description: Website Link; ComponentLink1URL: https://www.we-online.com/redexpert/article/74404054100?ad; ComponentLink2Description: Datasheet Link; ComponentLink2URL: https://www.we-online.com/redexpert/spec/74404054100?ad; Mount: Surface Mount; Min Operating Temperature: -40°C; Max Operating Temperature: 125°C; Packaging: Tape and Reel; Length: 5mm; Width: 5mm; Height: 4mm; DC Resistance: 0.064Ω; Inductance: 10μH
footprint WE-LQS_5040
simulation model 5040_74404054100_10u
pins: 1, 2

## 74404054101
designator L?, comment 100μH
WE-LQS SMT Power Inductor, size 5040, 100μH, 0.56Ω; Manufacturer Part Number: 74404054101; Manufacturer: Wurth Elektronik; Case/Size Code: 5040; Rated Current: 0.7A; Saturation Current: 0.82A; Self Resonant Frequency: 7.2MHz; Category: Power Inductors; Match Code: WE-LQS; ComponentLink1Description: Website Link; ComponentLink1URL: https://www.we-online.com/redexpert/article/74404054101?ad; ComponentLink2Description: Datasheet Link; ComponentLink2URL: https://www.we-online.com/redexpert/spec/74404054101?ad; Mount: Surface Mount; Min Operating Temperature: -40°C; Max Operating Temperature: 125°C; Packaging: Tape and Reel; Length: 5mm; Width: 5mm; Height: 4mm; DC Resistance: 0.56Ω; Inductance: 100μH
footprint WE-LQS_5040
simulation model 5040_74404054101_100u
pins: 1, 2

## 74404054102
designator L?, comment 1000μH
WE-LQS SMT Power Inductor, size 5040, 1000μH, 6Ω; Manufacturer Part Number: 74404054102; Manufacturer: Wurth Elektronik; Case/Size Code: 5040; Rated Current: 0.2A; Saturation Current: 0.24A; Self Resonant Frequency: 1.9MHz; Category: Power Inductors; Match Code: WE-LQS; ComponentLink1Description: Website Link; ComponentLink1URL: https://www.we-online.com/redexpert/article/74404054102?ad; ComponentLink2Description: Datasheet Link; ComponentLink2URL: https://www.we-online.com/redexpert/spec/74404054102?ad; Mount: Surface Mount; Min Operating Temperature: -40°C; Max Operating Temperature: 125°C; Packaging: Tape and Reel; Length: 5mm; Width: 5mm; Height: 4mm; DC Resistance: 6Ω; Inductance: 1000μH
footprint WE-LQS_5040
simulation model 5040_74404054102_1000u
pins: 1, 2

## 74404054150
designator L?, comment 15μH
WE-LQS SMT Power Inductor, size 5040, 15μH, 0.086Ω; Manufacturer Part Number: 74404054150; Manufacturer: Wurth Elektronik; Case/Size Code: 5040; Rated Current: 2A; Saturation Current: 2.2A; Self Resonant Frequency: 22MHz; Category: Power Inductors; Match Code: WE-LQS; ComponentLink1Description: Website Link; ComponentLink1URL: https://www.we-online.com/redexpert/article/74404054150?ad; ComponentLink2Description: Datasheet Link; ComponentLink2URL: https://www.we-online.com/redexpert/spec/74404054150?ad; Mount: Surface Mount; Min Operating Temperature: -40°C; Max Operating Temperature: 125°C; Packaging: Tape and Reel; Length: 5mm; Width: 5mm; Height: 4mm; DC Resistance: 0.086Ω; Inductance: 15μH
footprint WE-LQS_5040
simulation model 5040_74404054150_15u
pins: 1, 2

## 74404054151
designator L?, comment 150μH
WE-LQS SMT Power Inductor, size 5040, 150μH, 0.81Ω; Manufacturer Part Number: 74404054151; Manufacturer: Wurth Elektronik; Case/Size Code: 5040; Rated Current: 0.6A; Saturation Current: 0.72A; Self Resonant Frequency: 6.3MHz; Category: Power Inductors; Match Code: WE-LQS; ComponentLink1Description: Website Link; ComponentLink1URL: https://www.we-online.com/redexpert/article/74404054151?ad; ComponentLink2Description: Datasheet Link; ComponentLink2URL: https://www.we-online.com/redexpert/spec/74404054151?ad; Mount: Surface Mount; Min Operating Temperature: -40°C; Max Operating Temperature: 125°C; Packaging: Tape and Reel; Length: 5mm; Width: 5mm; Height: 4mm; DC Resistance: 0.81Ω; Inductance: 150μH
footprint WE-LQS_5040
simulation model 5040_74404054151_150u
pins: 1, 2

## 74404054220
designator L?, comment 22μH
WE-LQS SMT Power Inductor, size 5040, 22μH, 0.129Ω; Manufacturer Part Number: 74404054220; Manufacturer: Wurth Elektronik; Case/Size Code: 5040; Rated Current: 1.5A; Saturation Current: 1.7A; Self Resonant Frequency: 17MHz; Category: Power Inductors; Match Code: WE-LQS; ComponentLink1Description: Website Link; ComponentLink1URL: https://www.we-online.com/redexpert/article/74404054220?ad; ComponentLink2Description: Datasheet Link; ComponentLink2URL: https://www.we-online.com/redexpert/spec/74404054220?ad; Mount: Surface Mount; Min Operating Temperature: -40°C; Max Operating Temperature: 125°C; Packaging: Tape and Reel; Length: 5mm; Width: 5mm; Height: 4mm; DC Resistance: 0.129Ω; Inductance: 22μH
footprint WE-LQS_5040
simulation model 5040_74404054220_22u
pins: 1, 2

## 74404054221
designator L?, comment 220μH
WE-LQS SMT Power Inductor, size 5040, 220μH, 1.4Ω; Manufacturer Part Number: 74404054221; Manufacturer: Wurth Elektronik; Case/Size Code: 5040; Rated Current: 0.5A; Saturation Current: 0.55A; Self Resonant Frequency: 4.5MHz; Category: Power Inductors; Match Code: WE-LQS; ComponentLink1Description: Website Link; ComponentLink1URL: https://www.we-online.com/redexpert/article/74404054221?ad; ComponentLink2Description: Datasheet Link; ComponentLink2URL: https://www.we-online.com/redexpert/spec/74404054221?ad; Mount: Surface Mount; Min Operating Temperature: -40°C; Max Operating Temperature: 125°C; Packaging: Tape and Reel; Length: 5mm; Width: 5mm; Height: 4mm; DC Resistance: 1.4Ω; Inductance: 220μH
footprint WE-LQS_5040
simulation model 5040_74404054221_220u
pins: 1, 2

## 74404054222
designator L?, comment 2200μH
WE-LQS SMT Power Inductor, size 5040, 2200μH, 12.9Ω; Manufacturer Part Number: 74404054222; Manufacturer: Wurth Elektronik; Case/Size Code: 5040; Rated Current: 0.14A; Saturation Current: 0.18A; Self Resonant Frequency: 1.3MHz; Category: Power Inductors; Match Code: WE-LQS; ComponentLink1Description: Website Link; ComponentLink1URL: https://www.we-online.com/redexpert/article/74404054222?ad; ComponentLink2Description: Datasheet Link; ComponentLink2URL: https://www.we-online.com/redexpert/spec/74404054222?ad; Mount: Surface Mount; Min Operating Temperature: -40°C; Max Operating Temperature: 125°C; Packaging: Tape and Reel; Length: 5mm; Width: 5mm; Height: 4mm; DC Resistance: 12.9Ω; Inductance: 2200μH
footprint WE-LQS_5040
pins: 1, 2

## 74404054330
designator L?, comment 33μH
WE-LQS SMT Power Inductor, size 5040, 33μH, 0.188Ω; Manufacturer Part Number: 74404054330; Manufacturer: Wurth Elektronik; Case/Size Code: 5040; Rated Current: 1.2A; Saturation Current: 1.4A; Self Resonant Frequency: 13MHz; Category: Power Inductors; Match Code: WE-LQS; ComponentLink1Description: Website Link; ComponentLink1URL: https://www.we-online.com/redexpert/article/74404054330?ad; ComponentLink2Description: Datasheet Link; ComponentLink2URL: https://www.we-online.com/redexpert/spec/74404054330?ad; Mount: Surface Mount; Min Operating Temperature: -40°C; Max Operating Temperature: 125°C; Packaging: Tape and Reel; Length: 5mm; Width: 5mm; Height: 4mm; DC Resistance: 0.188Ω; Inductance: 33μH
footprint WE-LQS_5040
simulation model 5040_74404054330_33u
pins: 1, 2

## 74404054331
designator L?, comment 330μH
WE-LQS SMT Power Inductor, size 5040, 330μH, 2.1Ω; Manufacturer Part Number: 74404054331; Manufacturer: Wurth Elektronik; Case/Size Code: 5040; Rated Current: 0.4A; Saturation Current: 0.47A; Self Resonant Frequency: 3MHz; Category: Power Inductors; Match Code: WE-LQS; ComponentLink1Description: Website Link; ComponentLink1URL: https://www.we-online.com/redexpert/article/74404054331?ad; ComponentLink2Description: Datasheet Link; ComponentLink2URL: https://www.we-online.com/redexpert/spec/74404054331?ad; Mount: Surface Mount; Min Operating Temperature: -40°C; Max Operating Temperature: 125°C; Packaging: Tape and Reel; Length: 5mm; Width: 5mm; Height: 4mm; DC Resistance: 2.1Ω; Inductance: 330μH
footprint WE-LQS_5040
simulation model 5040_74404054331_330u
pins: 1, 2

## 74404054332
designator L?, comment 3300μH
WE-LQS SMT Power Inductor, size 5040, 3300μH, 21.6Ω; Manufacturer Part Number: 74404054332; Manufacturer: Wurth Elektronik; Case/Size Code: 5040; Rated Current: 0.1A; Saturation Current: 0.15A; Self Resonant Frequency: 1MHz; Category: Power Inductors; Match Code: WE-LQS; ComponentLink1Description: Website Link; ComponentLink1URL: https://www.we-online.com/redexpert/article/74404054332?ad; ComponentLink2Description: Datasheet Link; ComponentLink2URL: https://www.we-online.com/redexpert/spec/74404054332?ad; Mount: Surface Mount; Min Operating Temperature: -40°C; Max Operating Temperature: 125°C; Packaging: Tape and Reel; Length: 5mm; Width: 5mm; Height: 4mm; DC Resistance: 21.6Ω; Inductance: 3300μH
footprint WE-LQS_5040
pins: 1, 2

## 74404054470
designator L?, comment 47μH
WE-LQS SMT Power Inductor, size 5040, 47μH, 0.272Ω; Manufacturer Part Number: 74404054470; Manufacturer: Wurth Elektronik; Case/Size Code: 5040; Rated Current: 1A; Saturation Current: 1.2A; Self Resonant Frequency: 10MHz; Category: Power Inductors; Match Code: WE-LQS; ComponentLink1Description: Website Link; ComponentLink1URL: https://www.we-online.com/redexpert/article/74404054470?ad; ComponentLink2Description: Datasheet Link; ComponentLink2URL: https://www.we-online.com/redexpert/spec/74404054470?ad; Mount: Surface Mount; Min Operating Temperature: -40°C; Max Operating Temperature: 125°C; Packaging: Tape and Reel; Length: 5mm; Width: 5mm; Height: 4mm; DC Resistance: 0.272Ω; Inductance: 47μH
footprint WE-LQS_5040
simulation model 5040_74404054470_47u
pins: 1, 2

## 74404054471
designator L?, comment 470μH
WE-LQS SMT Power Inductor, size 5040, 470μH, 2.95Ω; Manufacturer Part Number: 74404054471; Manufacturer: Wurth Elektronik; Case/Size Code: 5040; Rated Current: 0.35A; Saturation Current: 0.4A; Self Resonant Frequency: 2.5MHz; Category: Power Inductors; Match Code: WE-LQS; ComponentLink1Description: Website Link; ComponentLink1URL: https://www.we-online.com/redexpert/article/74404054471?ad; ComponentLink2Description: Datasheet Link; ComponentLink2URL: https://www.we-online.com/redexpert/spec/74404054471?ad; Mount: Surface Mount; Min Operating Temperature: -40°C; Max Operating Temperature: 125°C; Packaging: Tape and Reel; Length: 5mm; Width: 5mm; Height: 4mm; DC Resistance: 2.95Ω; Inductance: 470μH
footprint WE-LQS_5040
simulation model 5040_74404054471_470u
pins: 1, 2

## 74404054680
designator L?, comment 68μH
WE-LQS SMT Power Inductor, size 5040, 68μH, 0.4Ω; Manufacturer Part Number: 74404054680; Manufacturer: Wurth Elektronik; Case/Size Code: 5040; Rated Current: 0.8A; Saturation Current: 0.99A; Self Resonant Frequency: 8.7MHz; Category: Power Inductors; Match Code: WE-LQS; ComponentLink1Description: Website Link; ComponentLink1URL: https://www.we-online.com/redexpert/article/74404054680?ad; ComponentLink2Description: Datasheet Link; ComponentLink2URL: https://www.we-online.com/redexpert/spec/74404054680?ad; Mount: Surface Mount; Min Operating Temperature: -40°C; Max Operating Temperature: 125°C; Packaging: Tape and Reel; Length: 5mm; Width: 5mm; Height: 4mm; DC Resistance: 0.4Ω; Inductance: 68μH
footprint WE-LQS_5040
simulation model 5040_74404054680_68u
pins: 1, 2

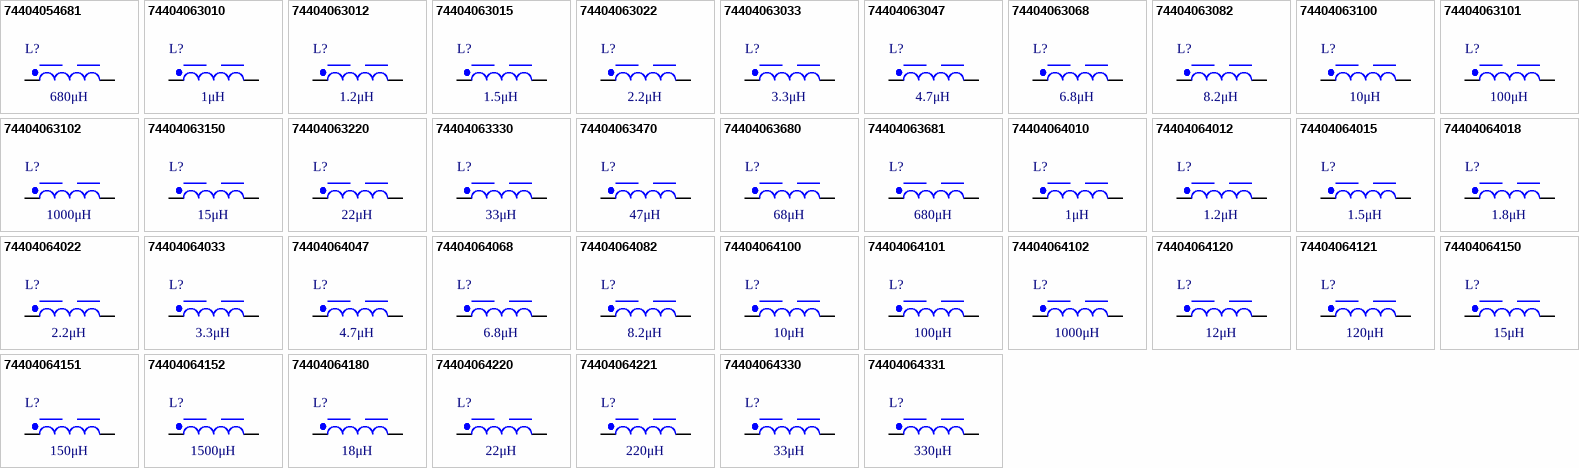
[diagram p3: symbols 74404054681 to 74404064331]